# Altium integrated library ST-PJ-312.IntLib: 1 symbol
Pins are listed as number, name and electrical type; pins without a type are passive.

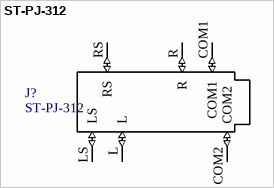
[diagram p0: symbol ST-PJ-312]

## ST-PJ-312
designator J?
SMD Audio Jack; 3.5mm; MF: Suntech; SnapEDA_Link: https://www.snapeda.com/parts/ST-PJ-312/Suntech/view-part/?ref=snap; Availability: Unavailable; Price: None; Package: None; MP: ST-PJ-312; Value: *
footprint *SUNTECH_ST-PJ-312_ST-PJ-312(Primary)
pins: COM1 (io), COM2 (io), L (io), LS (io), R (io), RS (io)